# EAGLE library part CAT93C56 (library be_microwire)
edited: Mario Blunk / Blunk electronic
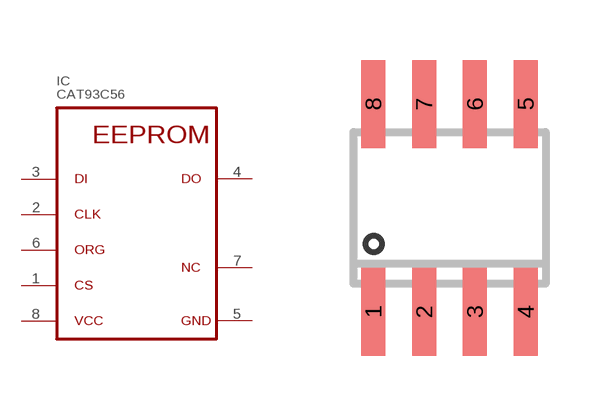
[diagram p0: symbol with the pads of SOIJ-8; footprint SOIJ-8]

Designator prefix IC

## CAT93C56V (BOM: YES; COMMISSIONED: 2013-08-30; PART_CODE_BEL: IC_PAC_SOIC-8_VAL_CAT93C56V)  [SOIJ-8]
1  CS  in
2  CLK  in
3  DI  in
4  DO  out
5  GND  pwr
6  ORG  in
7  NC  nc
8  VCC  pwr

## Footprint SOIJ-8 (pad centres in mm)
package edited: Mario Blunk / Blunk electronic date: 2013-08-05
smd 0.6 x 2.2: 1 -1.905,-2.6; 2 -0.635,-2.6; 3 0.635,-2.6; 4 1.905,-2.6; 5 1.905,2.6; 6 0.635,2.6; 7 -0.635,2.6; 8 -1.905,2.6